# Altium footprint library CON Phoenix- 8Pin.PcbLib: 1 footprints
Each footprint in its own frame and in the unit in brackets; x right, y up, seen from the top. Pads: shape width x height; smd on the part's side, far side on the other; paste and mask are expansions set on the pad; w line width, h text height; cw(c..) or ccw(c..) is an arc to the next point about the centre after c.
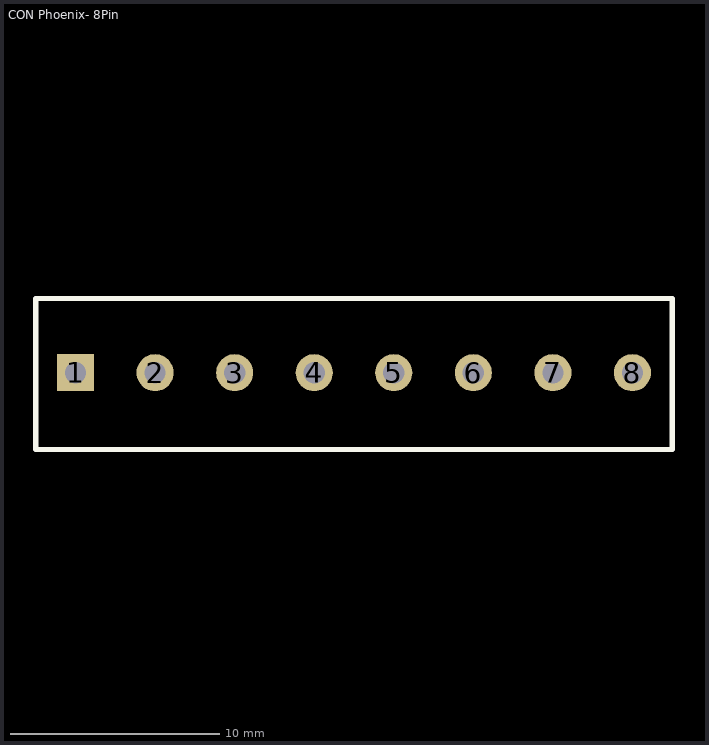
[diagram p0: the footprint, top view; thin cyan lines are the x and y axes]

## CON Phoenix- 8Pin [mil] "Phonix connector"
pads (8):
  rect 70x70 hole 40: 1(-20735,-33210)
  round 70 hole 40: 2(-20585,-33210) 3(-20435,-33210) 4(-20285,-33210) 5(-20135,-33210) 6(-19985,-33210) 7(-19835,-33210) 8(-19685,-33210)
Top Overlay:
  lines w10: -20810,-33355 -20810,-33320 -20810,-33070 -19610,-33070 -19610,-33240 -19610,-33355 -20810,-33355
3D body: height 364.65, standoff -107.8, extent -20810,-33357.4 -19610,-33070